# Altium footprint library IMX6PCBlib.PcbLib: 72 footprints (part 2 of 5)
Each footprint in its own frame and in the unit in brackets; x right, y up, seen from the top. Pads: shape width x height; smd on the part's side, far side on the other; paste and mask are expansions set on the pad; w line width, h text height; cw(c..) or ccw(c..) is an arc to the next point about the centre after c.
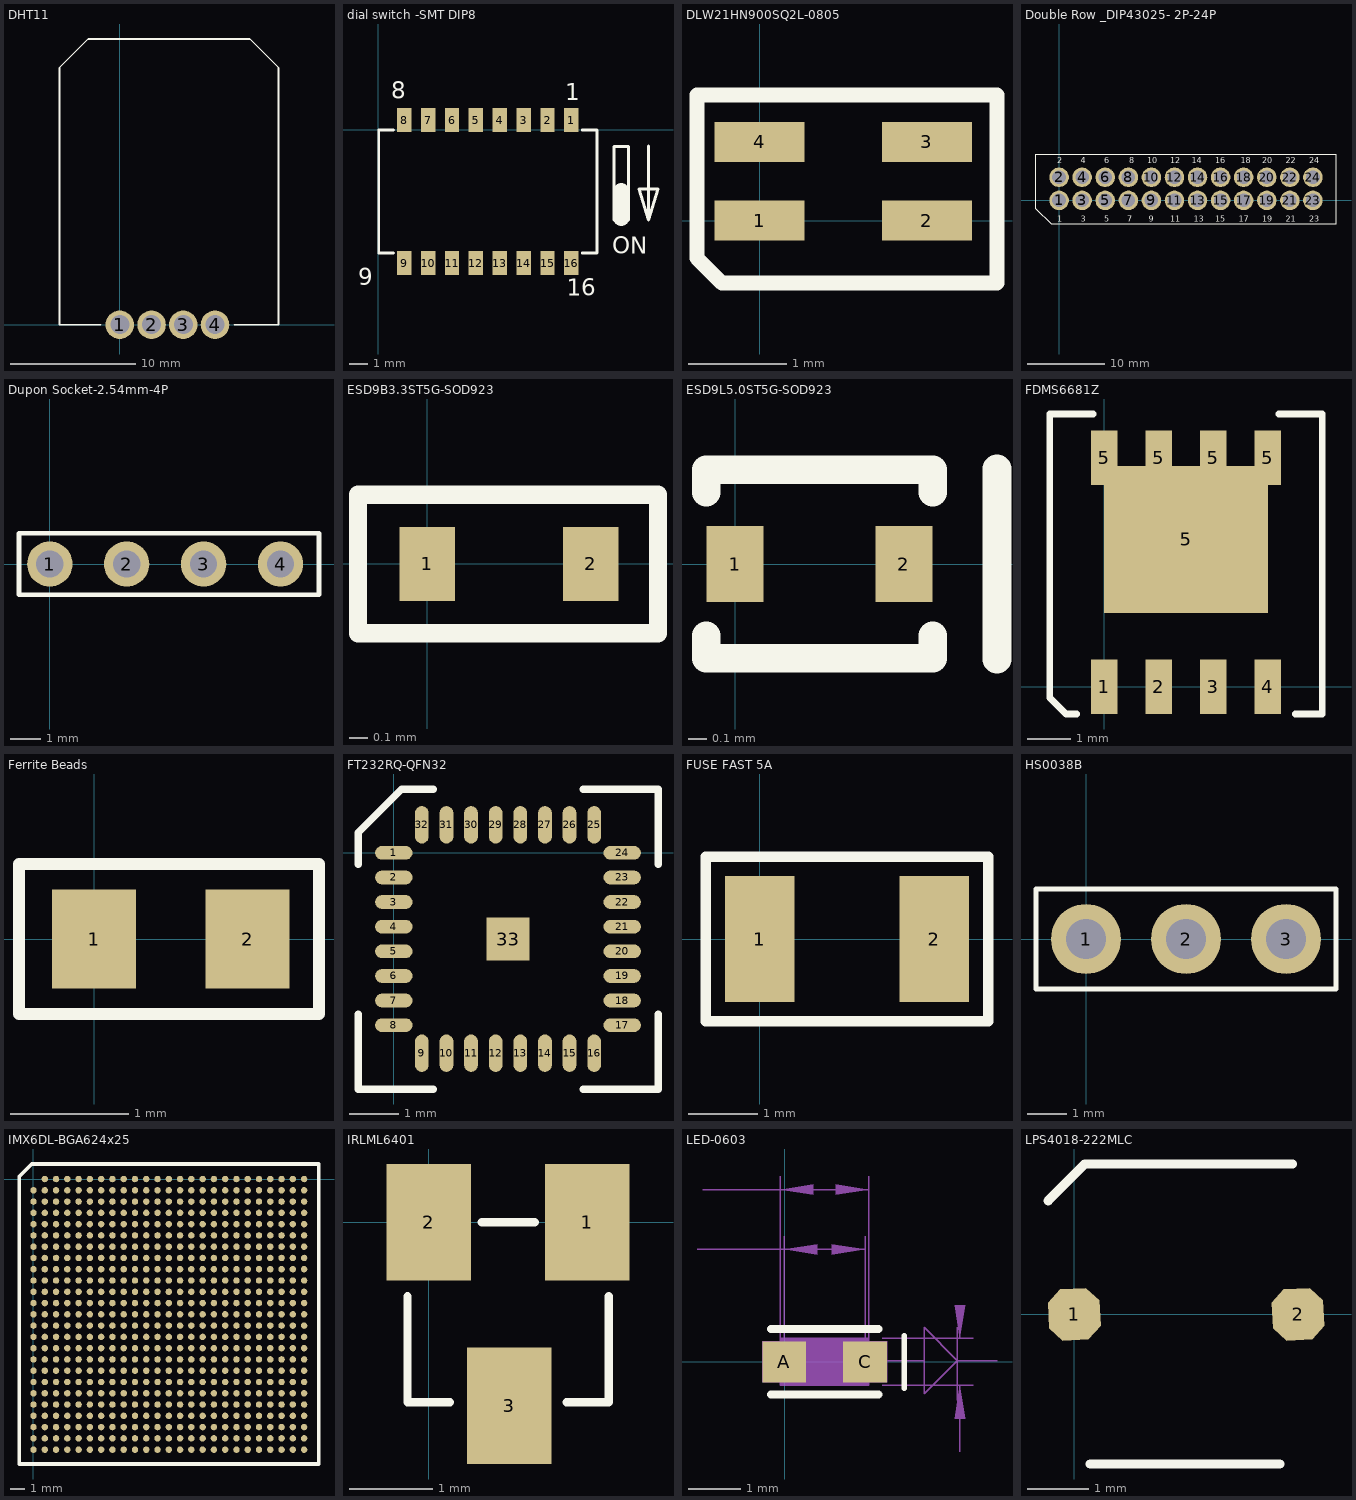
[diagram p1: the footprints below, top view; thin cyan lines are the x and y axes]

## DHT11 [mil]
pads (4):
  round 90 hole 60: 1(0,0) 2(100,0) 3(200,0) 4(300,0)
Top Overlay:
  lines w5: -60,0 -190,0 -190,810 -100,900 410,900 500,810 500,0 360,0

## dial switch -SMT DIP8 [mil]
pads (16):
  rect 30x50 smd: 1(405.2,20) 2(355.2,20) 3(305.2,20) 4(255.2,20) 5(204.8,20) 6(154.8,20) 7(104.8,20) 8(54.8,20) 9(54.8,-280) 10(104.8,-280) 11(154.8,-280) 12(204.8,-280) 13(255.2,-280) 14(305.2,-280) 15(355.2,-280) 16(405.2,-280)
Top Overlay:
  lines w6: 32,-259 1,-259 1,-1 32,-1 ; 428,-259 459,-259 459,-1 428,-1 ; 494.96,-189.84 494.96,-35.12 524.88,-35.12 524.88,-189.84 ; 567.01,-34.33 567.01,-189.45 ; 567.01,-189.45 547.32,-124.49 587.09,-124.49 567.01,-189.45
  lines w35.04: 509.92,-185.12 509.92,-130
  text "1" at 392.5,61.33 h35
  text "16" at 396,-348.67 h35
  text "8" at 27.5,64.33 h35
  text "9" at -42.5,-326.67 h35
  text "ON" at 491,-260.67 h35

## DLW21HN900SQ2L-0805 [mil]
pads (4):
  rect 36x16 smd: 1(0,0) 2(66.92,0) 3(66.92,31.5) 4(0,31.5)
Top Overlay:
  lines w6: 95,50 95,-10 95,-25 -15,-25 -25,-15 -25,43.31 -25,50.31 95,50.31

## Double Row _DIP43025- 2P-24P [mil]
pads (24):
  round 100 hole 70: 1(0,0) 2(0,118.11) 3(118.11,0) 4(118.11,118.11) 5(236.22,0) 6(236.22,118.11) 7(354.33,0) 8(354.33,118.11) 9(472.44,0) 10(472.44,118.11) 11(590.55,0) 12(590.55,118.11) 13(708.66,0) 14(708.66,118.11) 15(826.77,0) 16(826.77,118.11) 17(944.88,0) 18(944.88,118.11) 19(1062.99,0) 20(1062.99,118.11) 21(1181.1,0) 22(1181.1,118.11) 23(1299.21,0) 24(1299.21,118.11)
Top Overlay:
  lines w5: -118.11,-41.89 -118.11,236.22 1417.32,236.22 1417.32,-120 -40,-120 -118.11,-41.89
  text "24" at 1280,190 h30
  text "22" at 1160,190 h30
  text "20" at 1040,190 h30
  text "18" at 930,190 h30
  text "16" at 800,190 h30
  text "14" at 680,190 h30
  text "12" at 570,190 h30
  text "10" at 450,190 h30
  text "8" at 360,190 h30
  text "6" at 230,190 h30
  text "4" at 110,190 h30
  text "2" at -10,190 h30
  text "23" at 1280,-110 h30
  text "21" at 1160,-110 h30
  text "19" at 1040,-110 h30
  text "17" at 920,-110 h30
  text "15" at 800,-110 h30
  text "13" at 690,-110 h30
  text "11" at 570,-110 h30
  text "9" at 460,-110 h30
  text "7" at 350,-110 h30
  text "5" at 230,-110 h30
  text "3" at 110,-110 h30
  text "1" at -10,-110 h30

## Dupon Socket-2.54mm-4P [mil]
pads (4):
  round 59 hole 35.43: 1(0,0) 2(100,0) 3(200,0) 4(300,0)
Top Overlay:
  lines w6: -40,-40 -40,40 350,40 350,-40 -40,-40

## ESD9B3.3ST5G-SOD923 [mil]
pads (2):
  rect 12x16 smd: 1(0,0) 2(35.43,0)
Top Overlay:
  lines w3.94: -15,-15 50,-15 50,15 -15,15 -15,-15

## ESD9L5.0ST5G-SOD923 [mil]
pads (2):
  rect 12x16 smd: 1(0,0) 2(35.44,0)
Top Overlay:
  lines w5.98: -6.02,-15.04 -6.02,-19.8 41.46,-19.8 41.46,-15.04 ; -6.02,15.04 -6.02,19.8 41.46,19.8 41.46,15.04
  lines w6: 55,-20 55,20

## FDMS6681Z [mil]
pads (9):
  rect 24x50 smd: 1(0,0) 2(50,0) 3(100,0) 4(150,0) 5(0,209.84) 5(50,209.84) 5(100,209.84) 5(150,209.84)
  rect 150x135 smd: 5(75,135)
Top Overlay:
  lines w6: -10,250 -50,250 -50,-10 ; 160,250 200,250 200,-25 175,-25 ; -50,-10 -35,-25 ; -50,-10 -35,-25 ; -35,-25 -25,-25 -35,-25

## Ferrite Beads [mil]
height 603
pads (2):
  rect 28x33 smd: 1(0,0) 2(51.18,0)
Top Overlay:
  lines w3.94: -25,-25 -25,25 75,25 75,-25 -25,-25

## FT232RQ-QFN32 [mil]
pads (33):
  oval 30x11 smd: 1(0,0) 2(0,-19.7) 3(0,-39.4) 4(0,-59.1) 5(0,-78.8) 6(0,-98.5) 7(0,-118.2) 8(0,-137.9) 17(182.7,-137.9) 18(182.7,-118.2) 19(182.7,-98.5) 20(182.7,-78.8) 21(182.7,-59.1) 22(182.7,-39.4) 23(182.7,-19.7) 24(182.7,0)
  oval 11x30 smd: 9(22.4,-160.3) 10(42.1,-160.3) 11(61.8,-160.3) 12(81.5,-160.3) 13(101.2,-160.3) 14(120.9,-160.3) 15(140.6,-160.3) 16(160.3,-160.3) 25(160.3,22.4) 26(140.6,22.4) 27(120.9,22.4) 28(101.2,22.4) 29(81.5,22.4) 30(61.8,22.4) 31(42.1,22.4) 32(22.4,22.4)
  rect 34.7x34.7 smd: 33(91.35,-68.95)
Top Overlay:
  lines w6: -28.65,-128.95 -28.65,-188.95 31.35,-188.95 ; -28.65,-8.95 -28.65,16.05 6.35,51.05 31.35,51.05 ; 151.35,-188.95 211.35,-188.95 211.35,-128.95 ; 151.35,51.05 211.35,51.05 211.35,-8.95

## FUSE FAST 5A [mm]
pads (2):
  rect 1x1.8 smd: 1(0,0) 2(2.5,0)
Top Overlay:
  lines w0.152: 2.4,-1.18 3.275,-1.18 3.275,1.18 2.4,1.18 ; 2.42,-1.178 -0.775,-1.18 -0.775,1.18 2.465,1.18

## HS0038B [mil]
pads (3):
  round 70 hole 40: 1(0,0) 2(100,0) 3(200,0)
Top Overlay:
  lines w5: -50,-50 -50,50 250,50 250,-50 -50,-50

## IMX6DL-BGA624x25 [mil] "IMX6DL"
pads (624):
  round 18 smd: A2(31.5,0) A3(62.99,0) A4(94.49,0) A5(125.98,0) A6(157.48,0) A7(188.98,0) A8(220.47,0) A9(251.97,0) A10(283.46,0) A11(314.96,0) A12(346.46,0) A13(377.95,0) A14(409.45,0) A15(440.94,0) A16(472.44,0) A17(503.94,0) A18(535.43,0) A19(566.93,0) A20(598.42,0) A21(629.92,0) A22(661.42,0) A23(692.91,0) A24(724.41,0) A25(755.9,0) AA1(0,-629.92) AA2(31.5,-629.92) AA3(62.99,-629.92) AA4(94.49,-629.92) AA5(125.98,-629.92) AA6(157.48,-629.92) AA7(188.98,-629.92) AA8(220.47,-629.92) AA9(251.97,-629.92) AA10(283.46,-629.92) AA11(314.96,-629.92) AA12(346.46,-629.92) AA13(377.95,-629.92) AA14(409.45,-629.92) AA15(440.94,-629.92) AA16(472.44,-629.92) AA17(503.94,-629.92) AA18(535.43,-629.92) AA19(566.93,-629.92) AA20(598.42,-629.92) AA21(629.92,-629.92) AA22(661.42,-629.92) AA23(692.91,-629.92) AA24(724.41,-629.92) AA25(755.9,-629.92) AB1(0,-661.42) AB2(31.5,-661.42) AB3(62.99,-661.42) AB4(94.49,-661.42) AB5(125.98,-661.42) AB6(157.48,-661.42) AB7(188.98,-661.42) AB8(220.47,-661.42) AB9(251.97,-661.42) AB10(283.46,-661.42) AB11(314.96,-661.42) AB12(346.46,-661.42) AB13(377.95,-661.42) AB14(409.45,-661.42) AB15(440.94,-661.42) AB16(472.44,-661.42) AB17(503.94,-661.42) AB18(535.43,-661.42) AB19(566.93,-661.42) AB20(598.42,-661.42) AB21(629.92,-661.42) AB22(661.42,-661.42) AB23(692.91,-661.42) AB24(724.41,-661.42) AB25(755.9,-661.42) AC1(0,-692.91) AC2(31.5,-692.91) AC3(62.99,-692.91) AC4(94.49,-692.91) AC5(125.98,-692.91) AC6(157.48,-692.91) AC7(188.98,-692.91) AC8(220.47,-692.91) AC9(251.97,-692.91) AC10(283.46,-692.91) AC11(314.96,-692.91) AC12(346.46,-692.91) AC13(377.95,-692.91) AC14(409.45,-692.91) AC15(440.94,-692.91) AC16(472.44,-692.91) AC17(503.94,-692.91) AC18(535.43,-692.91) AC19(566.93,-692.91) AC20(598.42,-692.91) AC21(629.92,-692.91) AC22(661.42,-692.91) AC23(692.91,-692.91) AC24(724.41,-692.91) AC25(755.9,-692.91) AD1(0,-724.41) AD2(31.5,-724.41) AD3(62.99,-724.41) AD4(94.49,-724.41) AD5(125.98,-724.41) AD6(157.48,-724.41) AD7(188.98,-724.41) AD8(220.47,-724.41) AD9(251.97,-724.41) AD10(283.46,-724.41) AD11(314.96,-724.41) AD12(346.46,-724.41) AD13(377.95,-724.41) AD14(409.45,-724.41) AD15(440.94,-724.41) AD16(472.44,-724.41) AD17(503.94,-724.41) AD18(535.43,-724.41) AD19(566.93,-724.41) AD20(598.42,-724.41) AD21(629.92,-724.41) AD22(661.42,-724.41) AD23(692.91,-724.41) AD24(724.41,-724.41) AD25(755.9,-724.41) AE1(0,-755.9) AE2(31.5,-755.9) AE3(62.99,-755.9) AE4(94.49,-755.9) AE5(125.98,-755.9) AE6(157.48,-755.9) AE7(188.98,-755.9) AE8(220.47,-755.9) AE9(251.97,-755.9) AE10(283.46,-755.9) AE11(314.96,-755.9) AE12(346.46,-755.9) AE13(377.95,-755.9) AE14(409.45,-755.9) AE15(440.94,-755.9) AE16(472.44,-755.9) AE17(503.94,-755.9) AE18(535.43,-755.9) AE19(566.93,-755.9) AE20(598.42,-755.9) AE21(629.92,-755.9) AE22(661.42,-755.9) AE23(692.91,-755.9) AE24(724.41,-755.9) AE25(755.9,-755.9) B1(0,-31.5) B2(31.5,-31.5) B3(62.99,-31.5) B4(94.49,-31.5) B5(125.98,-31.5) B6(157.48,-31.5) B7(188.98,-31.5) B8(220.47,-31.5) B9(251.97,-31.5) B10(283.46,-31.5) B11(314.96,-31.5) B12(346.46,-31.5) B13(377.95,-31.5) B14(409.45,-31.5) B15(440.94,-31.5) B16(472.44,-31.5) B17(503.94,-31.5) B18(535.43,-31.5) B19(566.93,-31.5) B20(598.42,-31.5) B21(629.92,-31.5) B22(661.42,-31.5) B23(692.91,-31.5) B24(724.41,-31.5) B25(755.9,-31.5) C1(0,-62.99) C2(31.5,-62.99) C3(62.99,-62.99) C4(94.49,-62.99) C5(125.98,-62.99) C6(157.48,-62.99) C7(188.98,-62.99) C8(220.47,-62.99) C9(251.97,-62.99) C10(283.46,-62.99) C11(314.96,-62.99) C12(346.46,-62.99) C13(377.95,-62.99) C14(409.45,-62.99) C15(440.94,-62.99) C16(472.44,-62.99) C17(503.94,-62.99) C18(535.43,-62.99) C19(566.93,-62.99) C20(598.42,-62.99) C21(629.92,-62.99) C22(661.42,-62.99) C23(692.91,-62.99) C24(724.41,-62.99) C25(755.9,-62.99) D1(0,-94.49) D2(31.5,-94.49) D3(62.99,-94.49) D4(94.49,-94.49) D5(125.98,-94.49) D6(157.48,-94.49) D7(188.98,-94.49) D8(220.47,-94.49) D9(251.97,-94.49) D10(283.46,-94.49) D11(314.96,-94.49) D12(346.46,-94.49) D13(377.95,-94.49) D14(409.45,-94.49) D15(440.94,-94.49) D16(472.44,-94.49) D17(503.94,-94.49) D18(535.43,-94.49) D19(566.93,-94.49) D20(598.42,-94.49) D21(629.92,-94.49) D22(661.42,-94.49) D23(692.91,-94.49) D24(724.41,-94.49) D25(755.9,-94.49) E1(0,-125.98) E2(31.5,-125.98) E3(62.99,-125.98) E4(94.49,-125.98) E5(125.98,-125.98) E6(157.48,-125.98) E7(188.98,-125.98) E8(220.47,-125.98) E9(251.97,-125.98) E10(283.46,-125.98) E11(314.96,-125.98) E12(346.46,-125.98) E13(377.95,-125.98) E14(409.45,-125.98) E15(440.94,-125.98) E16(472.44,-125.98) E17(503.94,-125.98) E18(535.43,-125.98) E19(566.93,-125.98) E20(598.42,-125.98) E21(629.92,-125.98) E22(661.42,-125.98) E23(692.91,-125.98) E24(724.41,-125.98) E25(755.9,-125.98) F1(0,-157.48) F2(31.5,-157.48) F3(62.99,-157.48) F4(94.49,-157.48) F5(125.98,-157.48) F6(157.48,-157.48) F7(188.98,-157.48) F8(220.47,-157.48) F9(251.97,-157.48) F10(283.46,-157.48) F11(314.96,-157.48) F12(346.46,-157.48) F13(377.95,-157.48) F14(409.45,-157.48) F15(440.94,-157.48) F16(472.44,-157.48) F17(503.94,-157.48) F18(535.43,-157.48) F19(566.93,-157.48) F20(598.42,-157.48) F21(629.92,-157.48) F22(661.42,-157.48) F23(692.91,-157.48) F24(724.41,-157.48) F25(755.9,-157.48) G1(0,-188.98) G2(31.5,-188.98) G3(62.99,-188.98) G4(94.49,-188.98) G5(125.98,-188.98) G6(157.48,-188.98) G7(188.98,-188.98) G8(220.47,-188.98) G9(251.97,-188.98) G10(283.46,-188.98) G11(314.96,-188.98) G12(346.46,-188.98) G13(377.95,-188.98) G14(409.45,-188.98) G15(440.94,-188.98) G16(472.44,-188.98) G17(503.94,-188.98) G18(535.43,-188.98) G19(566.93,-188.98) G20(598.42,-188.98) G21(629.92,-188.98) G22(661.42,-188.98) G23(692.91,-188.98) G24(724.41,-188.98) G25(755.9,-188.98) H1(0,-220.47) H2(31.5,-220.47) H3(62.99,-220.47) H4(94.49,-220.47) H5(125.98,-220.47) H6(157.48,-220.47) H7(188.98,-220.47) H8(220.47,-220.47) H9(251.97,-220.47) H10(283.46,-220.47) H11(314.96,-220.47) H12(346.46,-220.47) H13(377.95,-220.47) H14(409.45,-220.47) H15(440.94,-220.47) H16(472.44,-220.47) H17(503.94,-220.47) H18(535.43,-220.47) H19(566.93,-220.47) H20(598.42,-220.47) H21(629.92,-220.47) H22(661.42,-220.47) H23(692.91,-220.47) H24(724.41,-220.47) H25(755.9,-220.47) J1(0,-251.97) J2(31.5,-251.97) J3(62.99,-251.97) J4(94.49,-251.97) J5(125.98,-251.97) J6(157.48,-251.97) J7(188.98,-251.97) J8(220.47,-251.97) J9(251.97,-251.97) J10(283.46,-251.97) J11(314.96,-251.97) J12(346.46,-251.97) J13(377.95,-251.97) J14(409.45,-251.97) J15(440.94,-251.97) J16(472.44,-251.97) J17(503.94,-251.97) J18(535.43,-251.97) J19(566.93,-251.97) J20(598.42,-251.97) J21(629.92,-251.97) J22(661.42,-251.97) J23(692.91,-251.97) J24(724.41,-251.97) J25(755.9,-251.97) K1(0,-283.46) K2(31.5,-283.46) K3(62.99,-283.46) K4(94.49,-283.46) K5(125.98,-283.46) K6(157.48,-283.46) K7(188.98,-283.46) K8(220.47,-283.46) K9(251.97,-283.46) K10(283.46,-283.46) K11(314.96,-283.46) K12(346.46,-283.46) K13(377.95,-283.46) K14(409.45,-283.46) K15(440.94,-283.46) K16(472.44,-283.46) K17(503.94,-283.46) K18(535.43,-283.46) K19(566.93,-283.46) K20(598.42,-283.46) K21(629.92,-283.46) K22(661.42,-283.46) K23(692.91,-283.46) K24(724.41,-283.46) K25(755.9,-283.46) L1(0,-314.96) L2(31.5,-314.96) L3(62.99,-314.96) L4(94.49,-314.96) L5(125.98,-314.96) L6(157.48,-314.96) L7(188.98,-314.96) L8(220.47,-314.96) L9(251.97,-314.96) L10(283.46,-314.96) L11(314.96,-314.96) L12(346.46,-314.96) L13(377.95,-314.96) L14(409.45,-314.96) L15(440.94,-314.96) L16(472.44,-314.96) L17(503.94,-314.96) L18(535.43,-314.96) L19(566.93,-314.96) L20(598.42,-314.96) L21(629.92,-314.96) L22(661.42,-314.96) L23(692.91,-314.96) L24(724.41,-314.96) L25(755.9,-314.96) M1(0,-346.46) M2(31.5,-346.46) M3(62.99,-346.46) M4(94.49,-346.46) M5(125.98,-346.46) M6(157.48,-346.46) M7(188.98,-346.46) M8(220.47,-346.46) M9(251.97,-346.46) M10(283.46,-346.46) M11(314.96,-346.46) M12(346.46,-346.46) M13(377.95,-346.46) M14(409.45,-346.46) M15(440.94,-346.46) M16(472.44,-346.46) M17(503.94,-346.46) M18(535.43,-346.46) M19(566.93,-346.46) M20(598.42,-346.46) M21(629.92,-346.46) M22(661.42,-346.46) M23(692.91,-346.46) M24(724.41,-346.46) M25(755.9,-346.46) N1(0,-377.95) N2(31.5,-377.95) N3(62.99,-377.95) N4(94.49,-377.95) N5(125.98,-377.95) N6(157.48,-377.95) N7(188.98,-377.95) N8(220.47,-377.95) N9(251.97,-377.95) N10(283.46,-377.95) N11(314.96,-377.95) N12(346.46,-377.95) N13(377.95,-377.95) N14(409.45,-377.95) N15(440.94,-377.95) N16(472.44,-377.95) N17(503.94,-377.95) N18(535.43,-377.95) N19(566.93,-377.95) N20(598.42,-377.95) N21(629.92,-377.95) N22(661.42,-377.95) N23(692.91,-377.95) N24(724.41,-377.95) N25(755.9,-377.95) P1(0,-409.45) P2(31.5,-409.45) P3(62.99,-409.45) P4(94.49,-409.45) P5(125.98,-409.45) P6(157.48,-409.45) P7(188.98,-409.45) P8(220.47,-409.45) P9(251.97,-409.45) P10(283.46,-409.45) P11(314.96,-409.45) P12(346.46,-409.45) P13(377.95,-409.45) P14(409.45,-409.45) P15(440.94,-409.45) P16(472.44,-409.45) P17(503.94,-409.45) P18(535.43,-409.45) P19(566.93,-409.45) P20(598.42,-409.45) P21(629.92,-409.45) P22(661.42,-409.45) P23(692.91,-409.45) P24(724.41,-409.45) P25(755.9,-409.45) R1(0,-440.94) R2(31.5,-440.94) R3(62.99,-440.94) R4(94.49,-440.94) R5(125.98,-440.94) R6(157.48,-440.94) R7(188.98,-440.94) R8(220.47,-440.94) R9(251.97,-440.94) R10(283.46,-440.94) R11(314.96,-440.94) R12(346.46,-440.94) R13(377.95,-440.94) R14(409.45,-440.94) R15(440.94,-440.94) R16(472.44,-440.94) R17(503.94,-440.94) R18(535.43,-440.94) R19(566.93,-440.94) R20(598.42,-440.94) R21(629.92,-440.94) R22(661.42,-440.94) R23(692.91,-440.94) R24(724.41,-440.94) R25(755.9,-440.94) T1(0,-472.44) T2(31.5,-472.44) T3(62.99,-472.44) T4(94.49,-472.44) T5(125.98,-472.44) T6(157.48,-472.44) T7(188.98,-472.44) T8(220.47,-472.44) T9(251.97,-472.44) T10(283.46,-472.44) T11(314.96,-472.44) T12(346.46,-472.44) T13(377.95,-472.44) T14(409.45,-472.44) T15(440.94,-472.44) T16(472.44,-472.44) T17(503.94,-472.44) T18(535.43,-472.44) T19(566.93,-472.44) T20(598.42,-472.44) T21(629.92,-472.44) T22(661.42,-472.44) T23(692.91,-472.44) T24(724.41,-472.44) T25(755.9,-472.44) U1(0,-503.94) U2(31.5,-503.94) U3(62.99,-503.94) U4(94.49,-503.94) U5(125.98,-503.94) U6(157.48,-503.94) U7(188.98,-503.94) U8(220.47,-503.94) U9(251.97,-503.94) U10(283.46,-503.94) U11(314.96,-503.94) U12(346.46,-503.94) U13(377.95,-503.94) U14(409.45,-503.94) U15(440.94,-503.94) U16(472.44,-503.94) U17(503.94,-503.94) U18(535.43,-503.94) U19(566.93,-503.94) U20(598.42,-503.94) U21(629.92,-503.94) U22(661.42,-503.94) U23(692.91,-503.94) U24(724.41,-503.94) U25(755.9,-503.94) V1(0,-535.43) V2(31.5,-535.43) V3(62.99,-535.43) V4(94.49,-535.43) V5(125.98,-535.43) V6(157.48,-535.43) V7(188.98,-535.43) V8(220.47,-535.43) V9(251.97,-535.43) V10(283.46,-535.43) V11(314.96,-535.43) V12(346.46,-535.43) V13(377.95,-535.43) V14(409.45,-535.43) V15(440.94,-535.43) V16(472.44,-535.43) V17(503.94,-535.43) V18(535.43,-535.43) V19(566.93,-535.43) V20(598.42,-535.43) V21(629.92,-535.43) V22(661.42,-535.43) V23(692.91,-535.43) V24(724.41,-535.43) V25(755.9,-535.43) W1(0,-566.93) W2(31.5,-566.93) W3(62.99,-566.93) W4(94.49,-566.93) W5(125.98,-566.93) W6(157.48,-566.93) W7(188.98,-566.93) W8(220.47,-566.93) W9(251.97,-566.93) W10(283.46,-566.93) W11(314.96,-566.93) W12(346.46,-566.93) W13(377.95,-566.93) W14(409.45,-566.93) W15(440.94,-566.93) W16(472.44,-566.93) W17(503.94,-566.93) W18(535.43,-566.93) W19(566.93,-566.93) W20(598.42,-566.93) W21(629.92,-566.93) W22(661.42,-566.93) W23(692.91,-566.93) W24(724.41,-566.93) W25(755.9,-566.93) Y1(0,-598.42) Y2(31.5,-598.42) Y3(62.99,-598.42) Y4(94.49,-598.42) Y5(125.98,-598.42) Y6(157.48,-598.42) Y7(188.98,-598.42) Y8(220.47,-598.42) Y9(251.97,-598.42) Y10(283.46,-598.42) Y11(314.96,-598.42) Y12(346.46,-598.42) Y13(377.95,-598.42) Y14(409.45,-598.42) Y15(440.94,-598.42) Y16(472.44,-598.42) Y17(503.94,-598.42) Y18(535.43,-598.42) Y19(566.93,-598.42) Y20(598.42,-598.42) Y21(629.92,-598.42) Y22(661.42,-598.42) Y23(692.91,-598.42) Y24(724.41,-598.42) Y25(755.9,-598.42)
Top Overlay:
  lines w10: -40,-796 -40,7.24 -5.24,42 797,42 797,-796 -40,-796

## IRLML6401 [mil]
pads (3):
  rect 40x55 smd: 1(74.8,0) 2(0,0) 3(38,-86.6)
Top Overlay:
  lines w3.94: -10,-35 -10,-85 10,-85 ; 25,0 50,0 ; 65,-85 85,-85 85,-35

## LED-0603 [mil]
pads (2):
  rect 33x31 smd: A(-0.51,0) C(60.51,0)
Top Overlay:
  lines w3.94: 90,-20 90,20
  lines w6: -10.47,-24.72 70.47,-24.72 ; -10.47,24.72 70.47,24.72
Mechanical 25:
  text "C" at 57.51,-3 h10
  text "A" at -5.51,-5 h10
Mechanical 30:
  region: -17.05,-15.51 -3.46,-15.51 -3.46,-17.72 63.46,-17.72 63.46,-15.51 77.05,-15.51 77.05,15.51 63.46,15.51 63.46,17.72 -3.46,17.72 -3.46,15.51 -17.05,15.51
Mechanical 31:
  pour cut-out: -3.46,-17.72 63.46,-17.72 63.5,-15.51 77.05,-15.51 77.05,15.51 63.46,15.51 63.46,17.72 -3.46,17.72 -3.46,15.51 -17.05,15.51 -17.05,-15.51 -3.46,-15.51
Mechanical 32:
  pour cut-out: 24.49,88.92 -0.51,84.92 24.49,80.93
  pour cut-out: 35.51,80.93 60.51,84.92 35.51,88.92
  pour cut-out: 136,-42.72 132,-17.72 128,-42.72
  pour cut-out: 128,42.72 132,17.72 136,42.72
  pour cut-out: 21.54,134 -3.46,130 21.54,126
  pour cut-out: 38.46,126 63.46,130 38.46,134
  lines w1: -66.23,84.92 -0.51,84.92 60.51,84.92 ; -61.75,130 -3.46,130 63.46,130 ; -3.46,-7.72 -3.46,140 ; -0.51,10 -0.51,94.92 ; 60.51,10 60.51,94.92 ; 63.46,-7.72 63.46,140 ; 70,1 105,1 ; 73.46,-17.72 142,-17.72 ; 73.46,17.72 142,17.72 ; 130,-29 130,26 ; 132,-67.72 132,-17.72 ; 132,17.72 132,36.75 ; 160,1 130,1 ; 130,1 105,-24 105,26 130,1 ; -3.46,-17.72 -3.46,17.72 63.46,17.72 63.46,-17.72 -3.46,-17.72
  text "1.55" at -202.48,69.42 h31
  text "0.90" at 147.5,63 h31
  text "1.70" at -198,114.5 h31
  text "ALL DIMS IN MM" at -150,-203 h31
  text "PAD R033X031S" at -148.35,-150.67 h31
  text "LED_0603" at -66,200 h31

## LPS4018-222MLC [mil]
pads (2):
  oct 33.3x33.3 smd rot 93: 1(0,0) 2(144.18,0)
Top Overlay:
  lines w6: -16.89,73.23 6.74,96.85 140.59,96.85 ; 10.28,-96.46 132.33,-96.46